# Altium footprint library Penguin.PcbLib: 37 footprints (part 1 of 3)
Each footprint in its own frame and in the unit in brackets; x right, y up, seen from the top. Pads: shape width x height; smd on the part's side, far side on the other; paste and mask are expansions set on the pad; w line width, h text height; cw(c..) or ccw(c..) is an arc to the next point about the centre after c.
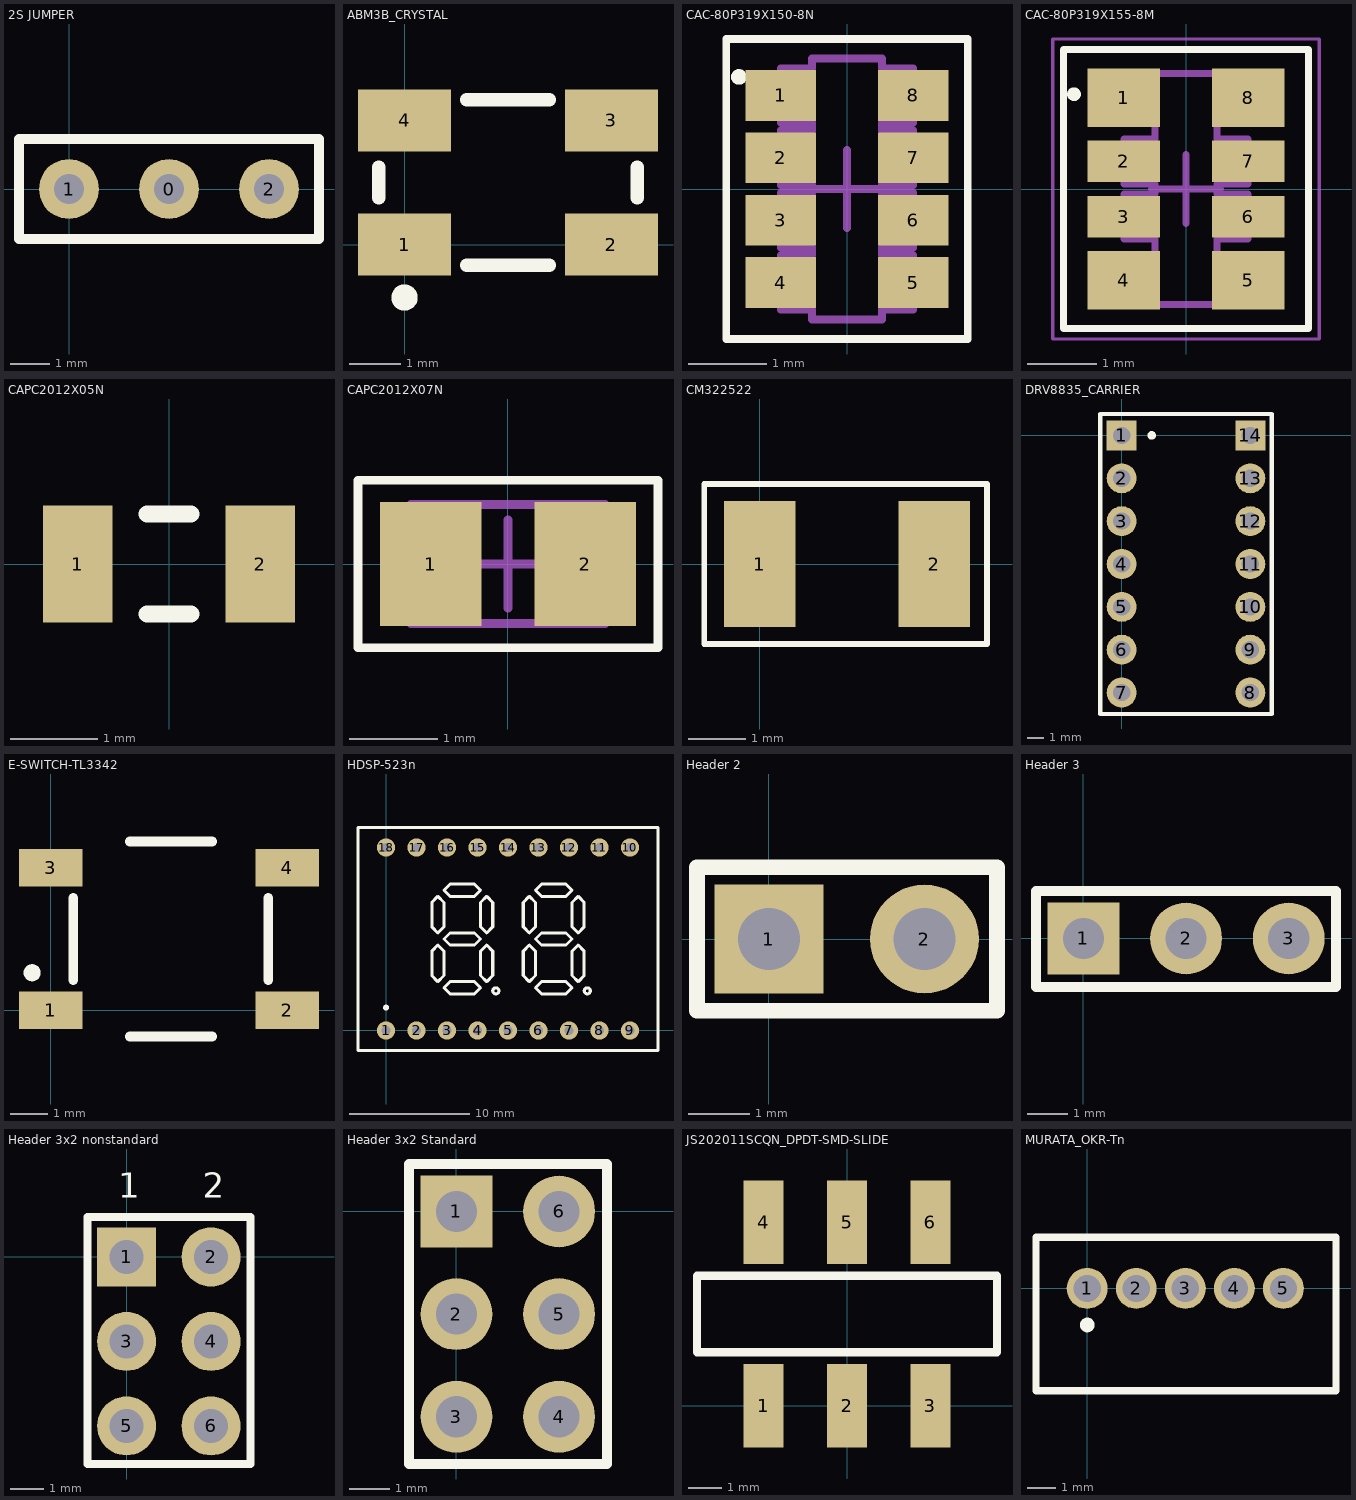
[diagram p0: the footprints below, top view; thin cyan lines are the x and y axes]

## 2S JUMPER [mil] "2 State Jumper, 0.1\" spacing"
pads (3):
  round 60 hole 30: 0(100,0) 1(0,0) 2(200,0)
Top Overlay:
  lines w10: -50,-50 -50,50 250,50 250,-50 -50,-50
3D body "BoardToBoard-Male-3pin.STEP": height 330.71, standoff -110.24, extent -45.87,-47.24 246.65,45.27

## ABM3B_CRYSTAL [mm]
pads (4):
  rect 1.8x1.2 smd: 1(0,0) 2(4,0) 3(4,2.4) 4(0,2.4)
Top Overlay:
  circle w0.254: c0,-1.025 r0.127
  lines w0.254: -0.5,0.9 -0.5,1.5 ; 1.2,-0.4 2.8,-0.4 ; 1.2,2.8 2.8,2.8 ; 4.5,0.9 4.5,1.5
3D body "ABM3B-CRYSTAL.STEP": height 1.1, standoff 0, extent -0.5,-0.4 4.5,2.8

## CAC-80P319X150-8N [mm] "Chip Array, ConvexE, 8-Leads, Pitch 0.80mm,  Body 3.20x1.50mm,  IPC Medium Density"
height 0.6
pads (8):
  rect 0.9x0.65 smd: 1(-0.85,1.2) 2(-0.85,0.4) 3(-0.85,-0.4) 4(-0.85,-1.2) 5(0.85,-1.2) 6(0.85,-0.4) 7(0.85,0.4) 8(0.85,1.2)
Top Overlay:
  circle w0.1: c-1.387,1.438 r0.05
  lines w0.1: -1.55,1.925 -1.55,-1.925 1.55,-1.925 1.55,1.925 -1.525,1.925
Mechanical 15:
  lines w0.05: -1.54,-1.925 1.54,-1.925 1.54,1.925 -1.54,1.925 -1.54,-1.925
  lines w0.1: -0.5,0 0.5,0 ; 0,-0.5 0,0.5 ; -0.85,-1.55 -0.45,-1.55 -0.45,-1.675 0.45,-1.675 0.45,-1.55 0.85,-1.55 0.85,-0.85 0.45,-0.85 0.45,-0.75 0.85,-0.75 0.85,-0.05 0.45,-0.05 0.45,0.05 0.85,0.05 0.85,0.75 0.45,0.75 0.45,0.85 0.85,0.85 0.85,1.55 0.45,1.55 0.45,1.675 -0.45,1.675 -0.45,1.55 -0.85,1.55 -0.85,0.85 -0.45,0.85 -0.45,0.75 -0.85,0.75 -0.85,0.05 -0.45,0.05 -0.45,-0.05 -0.85,-0.05 -0.85,-0.75 -0.45,-0.75 -0.45,-0.85 -0.85,-0.85 -0.85,-1.55
3D body "CAC-80P319X150-8N.step": height 0.6, standoff 0, extent -0.875,-1.675 0.875,1.675

## CAC-80P319X155-8M [mm] "Chip Array, ConvexS, 8-Leads, Pitch 0.80mm,  Body 3.20x1.55mm,  IPC Low Density"
height 0.7
pads (8):
  rect 1.05x0.85 smd: 1(-0.9,1.325) 4(-0.9,-1.325) 5(0.9,-1.325) 8(0.9,1.325)
  rect 1.05x0.6 smd: 2(-0.9,0.4) 3(-0.9,-0.4) 6(0.9,-0.4) 7(0.9,0.4)
Top Overlay:
  circle w0.1: c-1.625,1.375 r0.05
  lines w0.1: -1.775,-2.025 -1.775,2.025 1.775,2.025 1.775,-2.025 -1.775,-2.025
Mechanical 15:
  lines w0.05: -1.935,-2.175 -1.935,2.175 1.935,2.175 1.935,-2.175 -1.935,-2.175
  lines w0.1: -0.5,0 0.5,0 ; 0,-0.5 0,0.5 ; -0.9,-1.675 -0.9,-0.975 -0.45,-0.975 -0.45,-0.725 -0.9,-0.725 -0.9,-0.075 -0.45,-0.075 -0.45,0.075 -0.9,0.075 -0.9,0.725 -0.45,0.725 -0.45,0.975 -0.9,0.975 -0.9,1.675 0.9,1.675 0.9,0.975 0.45,0.975 0.45,0.725 0.9,0.725 0.9,0.075 0.45,0.075 0.45,-0.075 0.9,-0.075 0.9,-0.725 0.45,-0.725 0.45,-0.975 0.9,-0.975 0.9,-1.675 -0.9,-1.675
3D body "CAC-80P319X155-8M.step": height 0.7, standoff 0, extent -0.925,-1.675 0.925,1.675

## CAPC2012X05N [mm] "Chip Capacitor, 2-Leads, Body 2.00x1.20mm, IPC Medium Density"
height 0.5
pads (2):
  rect 0.8x1.35 smd: 1(-1.05,0) 2(1.05,0)
Top Overlay:
  lines w0.2: -0.25,-0.575 0.25,-0.575 ; -0.25,0.575 0.25,0.575

## CAPC2012X07N [mm] "Chip Capacitor, 2-Leads, Body 2.00x1.25mm, IPC Medium Density"
height 0.7
pads (2):
  rect 1.15x1.4 smd: 1(-0.875,0) 2(0.875,0)
Top Overlay:
  lines w0.1: -1.7,-0.95 1.7,-0.95 1.7,0.95 -1.7,0.95 -1.7,-0.95
Mechanical 15:
  lines w0.05: -1.7,-0.95 1.7,-0.95 1.7,0.95 -1.7,0.95 -1.7,-0.95
  lines w0.1: -0.5,0 0.5,0 ; 0,-0.5 0,0.5 ; -1.1,-0.675 -1.1,0.675 1.1,0.675 1.1,-0.675 -1.1,-0.675
3D body "CAPC2012X07N.step": height 0.7, standoff 0, extent -1.1,-0.675 1.1,0.675

## CM322522 [mm] "BOURNS SMD INDUCTOR"
pads (2):
  rect 1.25x2.2 smd: 1(0,0) 2(3.05,0)
Top Overlay:
  lines w0.1: -0.975,-1.4 3.975,-1.4 3.975,1.4 -0.975,1.4 -0.975,-1.4
3D body "BOURNS_CM322522_SMD-INDUCTOR.STEP": height 2.2, standoff 0, extent -0.15,-1.25 3.15,1.25

## DRV8835_CARRIER [mil]
pads (14):
  rect 70x70 hole 40: 1(0,0) 14(300,0)
  round 70 hole 40: 2(0,-100) 3(0,-200) 4(0,-300) 5(0,-400) 6(0,-500) 7(0,-600) 8(300,-600) 9(300,-500) 10(300,-400) 11(300,-300) 12(300,-200) 13(300,-100)
Top Overlay:
  circle w10: c70,0 r5
  lines w10: -50,-650 350,-650 350,50 -50,50 -50,-650
3D body "MDriverPCB.STEP": height 417.32, standoff -110.24, extent -49.4,-650.78 350.6,49.22

## E-SWITCH-TL3342 [mm]
pads (4):
  rect 1.7x1 smd: 1(0,0) 2(6.3,0) 3(0,3.8) 4(6.3,3.8)
Top Overlay:
  circle w0.254: c-0.5,1 r0.1
  lines w0.254: 0.6,0.8 0.6,3 ; 2.1,-0.7 4.3,-0.7 ; 2.1,4.5 4.3,4.5 ; 5.8,0.8 5.8,3
3D body "E-SWITCH-TL3342.STEP": height 1.54, standoff 0, extent 0,-0.7 6.4,4.5

## HDSP-523n [mil]
pads (18):
  round 60 hole 30: 1(0,0) 2(100,0) 3(200,0) 4(300,0) 5(400,0) 6(500,0) 7(600,0) 8(700,0) 9(800,0) 10(800,600) 11(700,600) 12(600,600) 13(500,600) 14(400,600) 15(300,600) 16(200,600) 17(100,600) 18(0,600)
Top Overlay:
  circle w10: c360,130 r10
  circle w10: c660,130 r10
  circle w10: c0,75 r5
  lines w10: -92,-66 -92,666 892,666 892,-66 -92,-66 ; 150,180 150,260 170,280 190,260 190,180 170,160 150,180 ; 150,340 150,420 170,440 190,420 190,340 170,320 150,340 ; 190,140 210,160 290,160 310,140 290,120 210,120 190,140 ; 190,300 210,320 290,320 310,300 290,280 210,280 190,300 ; 190,460 210,440 290,440 310,460 290,480 210,480 190,460 ; 310,180 330,160 350,180 350,260 330,280 310,260 310,180 ; 310,340 330,320 350,340 350,420 330,440 310,420 310,340 ; 450,180 470,160 490,180 490,260 470,280 450,260 450,180 ; 450,340 470,320 490,340 490,420 470,440 450,420 450,340 ; 490,140 510,120 590,120 610,140 590,160 510,160 490,140 ; 490,300 510,280 590,280 610,300 590,320 510,320 490,300 ; 490,460 510,480 590,480 610,460 590,440 510,440 490,460 ; 610,180 610,260 630,280 650,260 650,180 630,160 610,180 ; 610,340 610,420 630,440 650,420 650,340 630,320 610,340
3D body "AVAGO-HDSP-52xx.STEP": height 314.96, standoff -168.11, extent -92.52,-65.95 891.73,666.34

## Header 2 [mil]
height 300
pads (2):
  rect 70x70 hole 40: 1(0,0)
  round 70 hole 40: 2(100,0)
Top Overlay:
  lines w10: -46.26,-46.26 146.65,-46.26 146.65,46.26 -46.26,46.26 -46.26,-46.26
3D body "BoardToBoard-Male-2Pin.STEP": height 330.71, standoff -110.24, extent -46.26,-46.26 146.26,46.26

## Header 3 [mil]
height 300
pads (3):
  rect 70x70 hole 40: 1(0,0)
  round 70 hole 40: 2(100,0) 3(200,0)
Top Overlay:
  lines w10: -46.26,-47.24 -46.26,46.26 246.06,46.26 246.06,-47.24 -46.26,-47.24
3D body "BoardToBoard-Male-3pin.STEP": height 330.71, standoff -110.24, extent -46.25,-46.25 246.27,46.27

## Header 3x2 nonstandard [mil] "nonstandard, staggered pins"
height 300
pads (6):
  rect 70x70 hole 40: 1(0,0)
  round 70 hole 40: 2(100,0) 3(0,-100) 4(100,-100) 5(0,-200) 6(100,-200)
Top Overlay:
  lines w10: -46.26,-245.08 -46.26,47.24 146.65,47.24 146.65,-245.08 -46.26,-245.08
  text "2" at 90,60 h50
  text "1" at -10,60 h50
3D body "BoardToBoard-Male-2x3pin.STEP": height 330.71, standoff -110.24, extent -45.86,-245.66 146.66,46.86

## Header 3x2 Standard [mil] "Follows Standard pin convention"
height 300
pads (6):
  rect 70x70 hole 40: 1(0,0)
  round 70 hole 40: 2(0,-100) 3(0,-200) 4(100,-200) 5(100,-100) 6(100,0)
Top Overlay:
  lines w10: -46.26,-246.06 -46.26,46.26 146.65,46.26 146.65,-246.06 -46.26,-246.06
3D body "BoardToBoard-Male-2x3pin.STEP": height 330.71, standoff -110.24, extent -46.26,-246.05 146.26,46.46

## JS202011SCQN_DPDT-SMD-SLIDE [mm]
pads (6):
  rect 1.2x2.5 smd: 1(-2.5,0) 2(0,0) 3(2.5,0) 4(-2.5,5.5) 5(0,5.5) 6(2.5,5.5)
Top Overlay:
  lines w0.254: -4.5,1.6 -4.5,3.9 4.5,3.9 4.5,1.6 -4.5,1.6
3D body "JS202011_DPDT-SMD.STEP": height 5.5, standoff 0, extent -4.5,-1 4.5,6.5

## MURATA_OKR-Tn [mil] "Case C72"
pads (5):
  round 56 hole 37: 1(0,0) 2(67,0) 3(134,0) 4(201,0) 5(268,0)
Top Overlay:
  circle w10: c0,-50 r5
  lines w10: -70,-140 -70,-70 -70,70 340,70 340,-50 340,-140 -70,-140
3D body "mps_dcdc_okr_t3_w12_a.step": height 651, standoff -149, extent -70,-140 340,70.11